# Altium footprint library AD9172+K7.PcbLib: 77 footprints (part 2 of 5)
Each footprint in its own frame and in the unit in brackets; x right, y up, seen from the top. Pads: shape width x height; smd on the part's side, far side on the other; paste and mask are expansions set on the pad; w line width, h text height; cw(c..) or ccw(c..) is an arc to the next point about the centre after c.
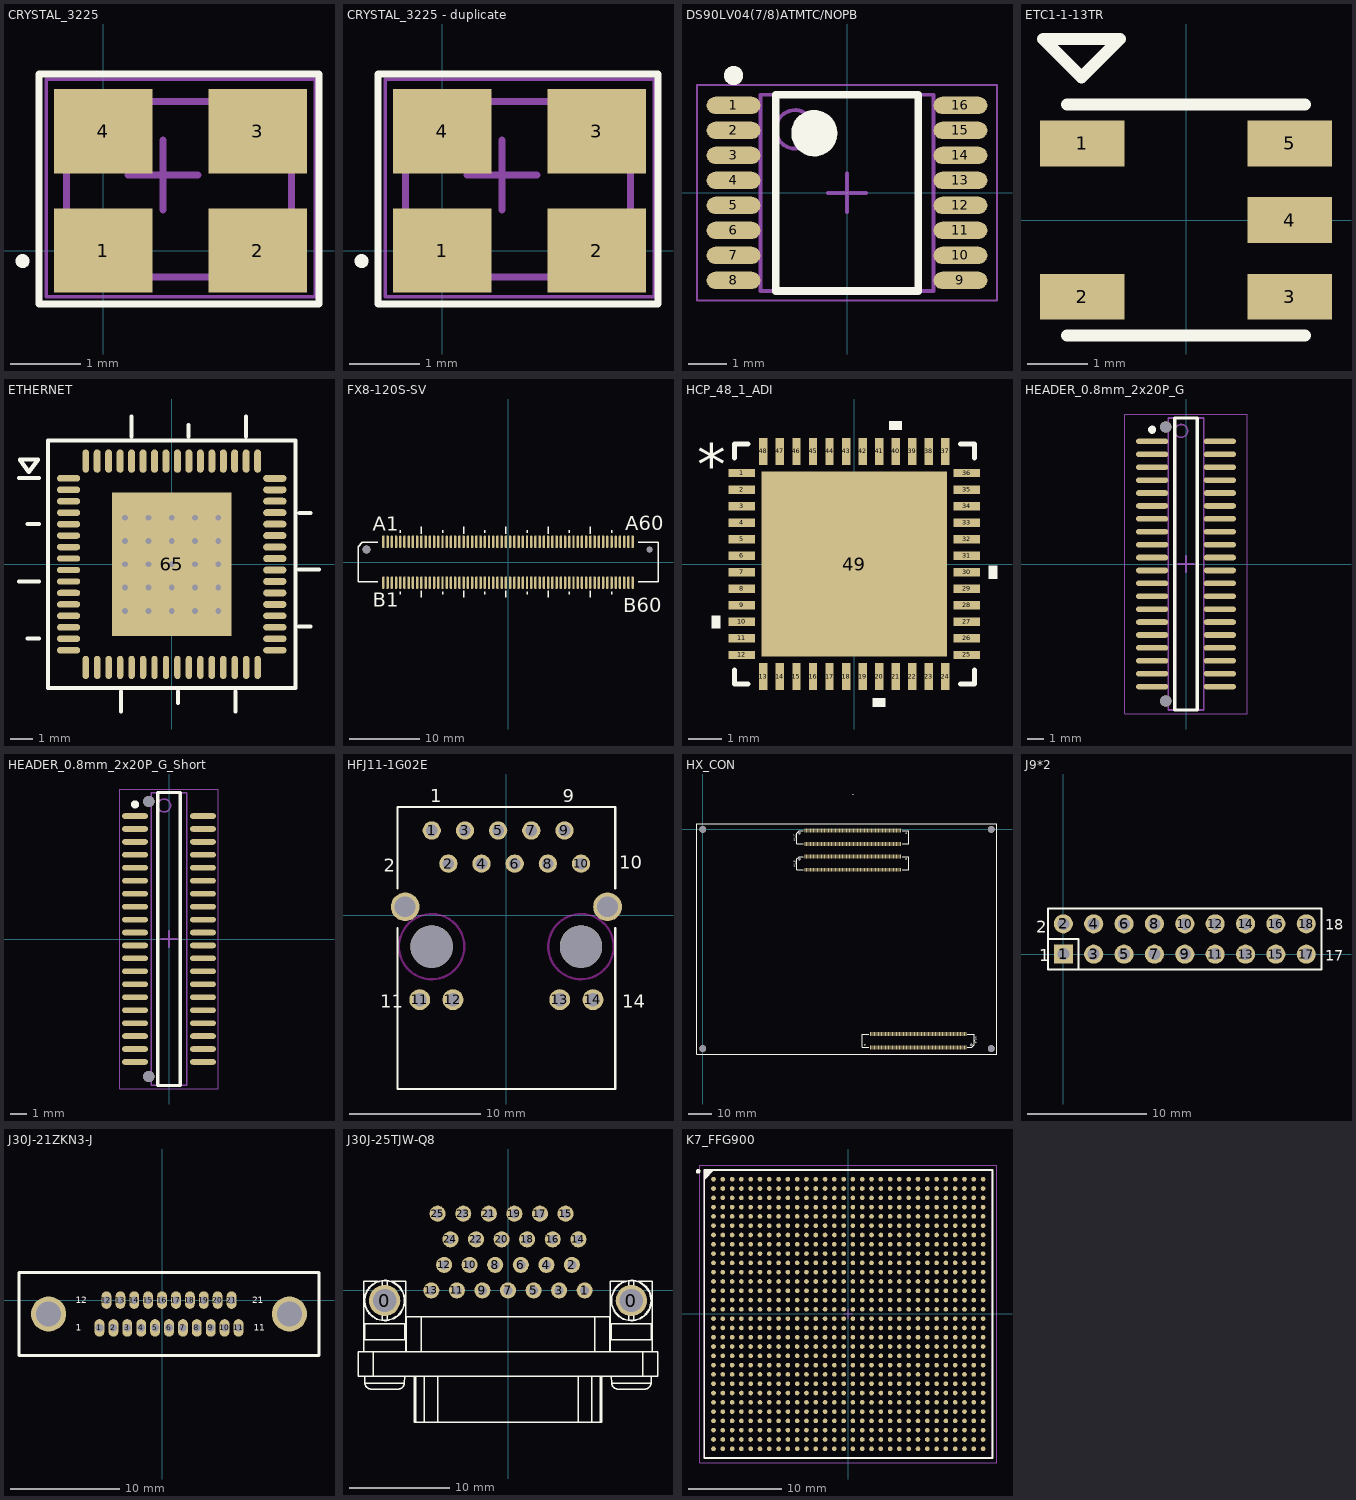
[diagram p1: the footprints below, top view; thin cyan lines are the x and y axes]

## CRYSTAL_3225 [mm]
pads (4):
  rect 1.4x1.2 smd: 1(0,0) 2(2.2,0) 3(2.2,1.7) 4(0,1.7)
Top Overlay:
  circle w0.1: c-1.15,-0.15 r0.05
  lines w0.1: -0.914,-0.762 3.073,-0.762 3.073,2.515 -0.914,2.515 -0.914,-0.762
Mechanical 13:
  lines w0.1: -0.521,-0.379 -0.521,2.121 2.679,2.121 2.679,-0.379 -0.521,-0.379
Mechanical 15:
  lines w0.05: -0.813,-0.66 -0.813,2.438 3.023,2.438 3.023,-0.66 -0.813,-0.66
  lines w0.1: 0.35,1.075 1.35,1.075 ; 0.85,0.575 0.85,1.575
3D body: height 0.7, standoff 0.1, extent -0.508,-0.412 2.692,2.088

## CRYSTAL_3225 - duplicate [mm]
pads (4):
  rect 1.4x1.2 smd: 1(0,0) 2(2.2,0) 3(2.2,1.7) 4(0,1.7)
Top Overlay:
  circle w0.1: c-1.15,-0.15 r0.05
  lines w0.1: -0.914,-0.762 3.073,-0.762 3.073,2.515 -0.914,2.515 -0.914,-0.762
Mechanical 13:
  lines w0.1: -0.521,-0.379 -0.521,2.121 2.679,2.121 2.679,-0.379 -0.521,-0.379
Mechanical 15:
  lines w0.05: -0.813,-0.66 -0.813,2.438 3.023,2.438 3.023,-0.66 -0.813,-0.66
  lines w0.1: 0.35,1.075 1.35,1.075 ; 0.85,0.575 0.85,1.575
3D body: height 0.7, standoff 0.1, extent -0.508,-0.412 2.692,2.088

## DS90LV04(7/8)ATMTC/NOPB [mm] "TSSOP (PW)"
height 1.2
pads (16):
  oval 1.4x0.45 smd: 1(-2.95,2.275) 2(-2.95,1.625) 3(-2.95,0.975) 4(-2.95,0.325) 5(-2.95,-0.325) 6(-2.95,-0.975) 7(-2.95,-1.625) 8(-2.95,-2.275) 9(2.95,-2.275) 10(2.95,-1.625) 11(2.95,-0.975) 12(2.95,-0.325) 13(2.95,0.325) 14(2.95,0.975) 15(2.95,1.625) 16(2.95,2.275)
Top Overlay:
  circle w0.25: c-2.95,3.05 r0.125
  circle w0.6: c-0.85,1.55 r0.3
  lines w0.2: -1.85,-2.55 -1.85,2.55 1.85,2.55 1.85,-2.55 -1.85,-2.55
Mechanical 13:
  circle w0.1: c-1.35,1.65 r0.5
  lines w0.1: -2.25,-2.55 -2.25,2.55 2.25,2.55 2.25,-2.55 -2.25,-2.55
Mechanical 15:
  lines w0.05: -3.9,-2.8 -3.9,2.8 3.9,2.8 3.9,-2.8 -3.9,-2.8
  lines w0.1: -0.5,0 0.5,0 ; 0,-0.5 0,0.5
3D body: height 1.2, standoff 0.05, extent -2.25,-2.55 2.25,2.55

## ETC1-1-13TR [mm]
pads (5):
  rect 1.4x0.76 smd: 1(-1.715,1.27) 2(-1.715,-1.27) 3(1.715,-1.27) 4(1.715,0) 5(1.715,1.27)
Top Overlay:
  lines w0.2: -1.97,-1.915 1.97,-1.915 ; -1.97,1.915 1.97,1.915 ; -2.365,3 -1.73,2.365 -1.095,3 -2.365,3

## ETHERNET [mm]
height 1.1
pads (65):
  oval 1.016x0.279 smd: 1(-4.5,3.75) 2(-4.5,3.25) 3(-4.5,2.75) 4(-4.5,2.25) 5(-4.5,1.75) 6(-4.5,1.25) 7(-4.5,0.75) 8(-4.5,0.25) 9(-4.5,-0.25) 10(-4.5,-0.75) 11(-4.5,-1.25) 12(-4.5,-1.75) 13(-4.5,-2.25) 14(-4.5,-2.75) 15(-4.5,-3.25) 16(-4.5,-3.75) 33(4.5,-3.75) 34(4.5,-3.25) 35(4.5,-2.75) 36(4.5,-2.25)
  oval 0.279x1.016 smd: 17(-3.75,-4.5) 18(-3.25,-4.5) 19(-2.75,-4.5) 20(-2.25,-4.5) 21(-1.75,-4.5) 22(-1.25,-4.5) 23(-0.75,-4.5) 24(-0.25,-4.5) 25(0.25,-4.5) 26(0.75,-4.5) 27(1.25,-4.5) 28(1.75,-4.5) 29(2.25,-4.5) 30(2.75,-4.5) 31(3.25,-4.5) 32(3.75,-4.5) 64(-3.75,4.5)
  oval 1.016x0.305 smd: 37(4.5,-1.75) 38(4.5,-1.25) 39(4.5,-0.75) 40(4.5,-0.25) 41(4.5,0.25) 42(4.5,0.75) 43(4.5,1.25) 44(4.5,1.75) 45(4.5,2.25) 46(4.5,2.75) 47(4.5,3.25) 48(4.5,3.75)
  oval 0.305x1.016 smd: 49(3.75,4.5) 50(3.25,4.5) 51(2.75,4.5) 52(2.25,4.5) 53(1.75,4.5) 54(1.25,4.5) 55(0.75,4.5) 56(0.25,4.5) 57(-0.25,4.5) 58(-0.75,4.5) 59(-1.25,4.5) 60(-1.75,4.5) 61(-2.25,4.5) 62(-2.75,4.5) 63(-3.25,4.5)
  rect 5.21x6.25 smd: 65(0,0)
via 0,0 diameter 0.457 hole 0.254
via 0,1.016 diameter 0.457 hole 0.254
via 0,2.032 diameter 0.457 hole 0.254
via 0,-1.016 diameter 0.457 hole 0.254
via 0,-2.032 diameter 0.457 hole 0.254
via -1.016,0 diameter 0.457 hole 0.254
via -2.032,0 diameter 0.457 hole 0.254
via 1.016,0 diameter 0.457 hole 0.254
via 2.032,0 diameter 0.457 hole 0.254
via 1.016,1.016 diameter 0.457 hole 0.254
via 1.016,2.032 diameter 0.457 hole 0.254
via 1.016,-1.016 diameter 0.457 hole 0.254
via 1.016,-2.032 diameter 0.457 hole 0.254
via 2.032,1.016 diameter 0.457 hole 0.254
via 2.032,2.032 diameter 0.457 hole 0.254
via 2.032,-1.016 diameter 0.457 hole 0.254
via 2.032,-2.032 diameter 0.457 hole 0.254
via -1.016,1.016 diameter 0.457 hole 0.254
via -1.016,2.032 diameter 0.457 hole 0.254
via -1.016,-1.016 diameter 0.457 hole 0.254
via -1.016,-2.032 diameter 0.457 hole 0.254
via -2.032,1.016 diameter 0.457 hole 0.254
via -2.032,2.032 diameter 0.457 hole 0.254
via -2.032,-1.016 diameter 0.457 hole 0.254
via -2.032,-2.032 diameter 0.457 hole 0.254
Top Overlay:
  lines w0.178: -6.662,-0.743 -5.798,-0.743 ; -6.662,3.757 -5.798,3.757 ; -6.292,-3.243 -5.798,-3.243 ; -6.292,1.757 -5.798,1.757 ; -2.217,-6.414 -2.217,-5.551 ; -1.76,5.575 -1.76,6.438 ; 0.283,-6.044 0.283,-5.551 ; 0.74,5.575 0.74,6.068 ; 2.783,-6.414 2.783,-5.551 ; 3.24,5.575 3.24,6.438 ; 5.563,-2.718 6.056,-2.718 ; 5.563,-0.229 6.426,-0.229 ; 5.566,2.243 6.06,2.243 ; -6.625,4.571 -5.825,4.571 -6.233,4.025 -6.625,4.571 ; -5.4,-5.4 -5.4,5.4 5.4,5.4 5.4,-5.4 -5.4,-5.4

## FX8-120S-SV [mm]
pads (122):
  oval 0.35x1.8 smd mask+0.102: A1(-17.7,2.9) A2(-17.1,2.9) A3(-16.5,2.9) A4(-15.9,2.9) A5(-15.3,2.9) A6(-14.7,2.9) A7(-14.1,2.9) A8(-13.5,2.9) A9(-12.9,2.9) A10(-12.3,2.9) A11(-11.7,2.9) A12(-11.1,2.9) A13(-10.5,2.9) A14(-9.9,2.9) A15(-9.3,2.9) A16(-8.7,2.9) A17(-8.1,2.9) A18(-7.5,2.9) A19(-6.9,2.9) A20(-6.3,2.9) A21(-5.7,2.9) A22(-5.1,2.9) A23(-4.5,2.9) A24(-3.9,2.9) A25(-3.3,2.9) A26(-2.7,2.9) A27(-2.1,2.9) A28(-1.5,2.9) A29(-0.9,2.9) A30(-0.3,2.9) A31(0.3,2.9) A32(0.9,2.9) A33(1.5,2.9) A34(2.1,2.9) A35(2.7,2.9) A36(3.3,2.9) A37(3.9,2.9) A38(4.5,2.9) A39(5.1,2.9) A40(5.7,2.9) A41(6.3,2.9) A42(6.9,2.9) A43(7.5,2.9) A44(8.1,2.9) A45(8.7,2.9) A46(9.3,2.9) A47(9.9,2.9) A48(10.5,2.9) A49(11.1,2.9) A50(11.7,2.9) A51(12.3,2.9) A52(12.9,2.9) A53(13.5,2.9) A54(14.1,2.9) A55(14.7,2.9) A56(15.3,2.9) A57(15.9,2.9) A58(16.5,2.9) A59(17.1,2.9) A60(17.7,2.9) B1(-17.7,-2.9) B2(-17.1,-2.9) B3(-16.5,-2.9) B4(-15.9,-2.9) B5(-15.3,-2.9) B6(-14.7,-2.9) B7(-14.1,-2.9) B8(-13.5,-2.9) B9(-12.9,-2.9) B10(-12.3,-2.9) B11(-11.7,-2.9) B12(-11.1,-2.9) B13(-10.5,-2.9) B14(-9.9,-2.9) B15(-9.3,-2.9) B16(-8.7,-2.9) B17(-8.1,-2.9) B18(-7.5,-2.9) B19(-6.9,-2.9) B20(-6.3,-2.9) B21(-5.7,-2.9) B22(-5.1,-2.9) B23(-4.5,-2.9) B24(-3.9,-2.9) B25(-3.3,-2.9) B26(-2.7,-2.9) B27(-2.1,-2.9) B28(-1.5,-2.9) B29(-0.9,-2.9) B30(-0.3,-2.9) B31(0.3,-2.9) B32(0.9,-2.9) B33(1.5,-2.9) B34(2.1,-2.9) B35(2.7,-2.9) B36(3.3,-2.9) B37(3.9,-2.9) B38(4.5,-2.9) B39(5.1,-2.9) B40(5.7,-2.9) B41(6.3,-2.9) B42(6.9,-2.9) B43(7.5,-2.9) B44(8.1,-2.9) B45(8.7,-2.9) B46(9.3,-2.9) B47(9.9,-2.9) B48(10.5,-2.9) B49(11.1,-2.9) B50(11.7,-2.9) B51(12.3,-2.9) B52(12.9,-2.9) B53(13.5,-2.9) B54(14.1,-2.9) B55(14.7,-2.9) B56(15.3,-2.9) B57(15.9,-2.9) B58(16.5,-2.9) B59(17.1,-2.9) B60(17.7,-2.9)
  round 1.1 hole 1.1 unplated mask+0.102: ""(-20.1,1.8)
  round 0.8 hole 0.8 unplated mask+0.102: ""(20.1,1.8)
Top Overlay:
  lines w0.178: -18.5,-2.8 -21.3,-2.8 -21.3,2.195 -20.695,2.8 -18.5,2.8 ; -15.291,-4.547 -15.291,-4.166 ; -15.291,4.166 -15.291,4.547 ; -12.319,-5.004 -12.319,-4.064 ; -12.319,4.064 -12.319,5.004 ; -9.291,-4.547 -9.291,-4.166 ; -9.291,4.166 -9.291,4.547 ; -6.319,-5.004 -6.319,-4.064 ; -6.319,4.064 -6.319,5.004 ; -3.291,-4.547 -3.291,-4.166 ; -3.291,4.166 -3.291,4.547 ; -0.319,-5.004 -0.319,-4.064 ; -0.319,4.064 -0.319,5.004 ; 2.709,-4.547 2.709,-4.166 ; 2.709,4.166 2.709,4.547 ; 5.681,-5.004 5.681,-4.064 ; 5.681,4.064 5.681,5.004 ; 8.709,-4.547 8.709,-4.166 ; 8.709,4.166 8.709,4.547 ; 11.681,-5.004 11.681,-4.064 ; 11.681,4.064 11.681,5.004 ; 14.709,-4.547 14.709,-4.166 ; 14.709,4.166 14.709,4.547 ; 18.5,-2.8 21.3,-2.8 21.3,2.8 18.5,2.8
  text "A1" at -19.177,4.445 h2.03
  text "B1" at -19.177,-6.35 h2.03
  text "A60" at 16.637,4.572 h2.03
  text "B60" at 16.383,-7.112 h2.03

## HCP_48_1_ADI [mm]
pads (49):
  rect 0.805x0.254 smd paste+0 mask+0: 1(-3.402,2.75) 2(-3.402,2.25) 3(-3.402,1.75) 4(-3.402,1.25) 5(-3.402,0.75) 6(-3.402,0.25) 7(-3.402,-0.25) 8(-3.402,-0.75) 9(-3.402,-1.25) 10(-3.402,-1.75) 11(-3.402,-2.25) 12(-3.402,-2.75) 25(3.402,-2.75) 26(3.402,-2.25) 27(3.402,-1.75) 28(3.402,-1.25) 29(3.402,-0.75) 30(3.402,-0.25) 31(3.402,0.25) 32(3.402,0.75) 33(3.402,1.25) 34(3.402,1.75) 35(3.402,2.25) 36(3.402,2.75)
  rect 0.254x0.805 smd paste+0 mask+0: 13(-2.75,-3.402) 14(-2.25,-3.402) 15(-1.75,-3.402) 16(-1.25,-3.402) 17(-0.75,-3.402) 18(-0.25,-3.402) 19(0.25,-3.402) 20(0.75,-3.402) 21(1.25,-3.402) 22(1.75,-3.402) 23(2.25,-3.402) 24(2.75,-3.402) 37(2.75,3.402) 38(2.25,3.402) 39(1.75,3.402) 40(1.25,3.402) 41(0.75,3.402) 42(0.25,3.402) 43(-0.25,3.402) 44(-0.75,3.402) 45(-1.25,3.402) 46(-1.75,3.402) 47(-2.25,3.402) 48(-2.75,3.402)
  rect 5.6x5.6 smd paste-2.787 mask+0: 49(0,0)
Top Overlay:
  region: -4.059,-1.559 -4.313,-1.559 -4.313,-1.94 -4.059,-1.94
  region: 0.941,-4.059 0.56,-4.059 0.56,-4.313 0.941,-4.313
  region: 4.059,-0.059 4.313,-0.059 4.313,-0.44 4.059,-0.44
  region: 1.441,4.059 1.06,4.059 1.06,4.313 1.441,4.313
  lines w0.152: -3.627,-3.21 -3.627,-3.627 -3.21,-3.627 ; -3.627,3.21 -3.627,3.627 -3.21,3.627 ; 3.21,-3.627 3.627,-3.627 3.627,-3.21 ; 3.21,3.627 3.627,3.627 3.627,3.21
  text "*" at -4.757,2.365 h1.27
Top Paste:
  region: -1.5,2.7 -2.7,2.7 -2.7,1.5 -1.5,1.5
  region: -1.5,1.3 -2.7,1.3 -2.7,0.1 -1.5,0.1
  region: -1.5,-0.1 -2.7,-0.1 -2.7,-1.3 -1.5,-1.3
  region: -1.5,-1.5 -2.7,-1.5 -2.7,-2.7 -1.5,-2.7
  region: -0.1,2.7 -1.3,2.7 -1.3,1.5 -0.1,1.5
  region: -0.1,1.3 -1.3,1.3 -1.3,0.1 -0.1,0.1
  region: -0.1,-0.1 -1.3,-0.1 -1.3,-1.3 -0.1,-1.3
  region: -0.1,-1.5 -1.3,-1.5 -1.3,-2.7 -0.1,-2.7
  region: 1.3,2.7 0.1,2.7 0.1,1.5 1.3,1.5
  region: 1.3,1.3 0.1,1.3 0.1,0.1 1.3,0.1
  region: 1.3,-0.1 0.1,-0.1 0.1,-1.3 1.3,-1.3
  region: 1.3,-1.5 0.1,-1.5 0.1,-2.7 1.3,-2.7
  region: 2.7,2.7 1.5,2.7 1.5,1.5 2.7,1.5
  region: 2.7,1.3 1.5,1.3 1.5,0.1 2.7,0.1
  region: 2.7,-0.1 1.5,-0.1 1.5,-1.3 2.7,-1.3
  region: 2.7,-1.5 1.5,-1.5 1.5,-2.7 2.7,-2.7

## HEADER_0.8mm_2x20P_G [mm] "0.8间距2x20P公座，SMD"
height 2
pads (40):
  oval 2x0.35 smd: 1(-2.1,7.6) 2(-2.1,6.8) 3(-2.1,6) 4(-2.1,5.2) 5(-2.1,4.4) 6(-2.1,3.6) 7(-2.1,2.8) 8(-2.1,2) 9(-2.1,1.2) 10(-2.1,0.4) 11(-2.1,-0.4) 12(-2.1,-1.2) 13(-2.1,-2) 14(-2.1,-2.8) 15(-2.1,-3.6) 16(-2.1,-4.4) 17(-2.1,-5.2) 18(-2.1,-6) 19(-2.1,-6.8) 20(-2.1,-7.6) 21(2.1,-7.6) 22(2.1,-6.8) 23(2.1,-6) 24(2.1,-5.2) 25(2.1,-4.4) 26(2.1,-3.6) 27(2.1,-2.8) 28(2.1,-2) 29(2.1,-1.2) 30(2.1,-0.4) 31(2.1,0.4) 32(2.1,1.2) 33(2.1,2) 34(2.1,2.8) 35(2.1,3.6) 36(2.1,4.4) 37(2.1,5.2) 38(2.1,6) 39(2.1,6.8) 40(2.1,7.6)
via -1.25,-8.5 diameter 0.7 hole 0.7
via -1.25,8.5 diameter 0.7 hole 0.7
Top Overlay:
  circle w0.25: c-2.1,8.325 r0.125
  lines w0.2: -0.7,-9.05 0.7,-9.05 0.7,9.05 -0.7,9.05 -0.7,-9.05
Mechanical 13:
  circle w0.1: c-0.3,8.25 r0.4
  lines w0.1: -1.1,-9.05 1.1,-9.05 1.1,9.05 -1.1,9.05 -1.1,-9.05
Mechanical 15:
  lines w0.05: -3.8,-9.3 3.8,-9.3 3.8,9.3 -3.8,9.3 -3.8,-9.3
  lines w0.1: -0.5,0 0.5,0 ; 0,-0.5 0,0.5
3D body: height 2, standoff 0.1, extent -1.1,-9.05 1.1,9.05

## HEADER_0.8mm_2x20P_G_Short [mm] "0.8间距2x20P公座，SMD"
height 2
pads (40):
  oval 1.6x0.35 smd: 1(-2.1,7.6) 2(-2.1,6.8) 3(-2.1,6) 4(-2.1,5.2) 5(-2.1,4.4) 6(-2.1,3.6) 7(-2.1,2.8) 8(-2.1,2) 9(-2.1,1.2) 10(-2.1,0.4) 11(-2.1,-0.4) 12(-2.1,-1.2) 13(-2.1,-2) 14(-2.1,-2.8) 15(-2.1,-3.6) 16(-2.1,-4.4) 17(-2.1,-5.2) 18(-2.1,-6) 19(-2.1,-6.8) 20(-2.1,-7.6) 21(2.1,-7.6) 22(2.1,-6.8) 23(2.1,-6) 24(2.1,-5.2) 25(2.1,-4.4) 26(2.1,-3.6) 27(2.1,-2.8) 28(2.1,-2) 29(2.1,-1.2) 30(2.1,-0.4) 31(2.1,0.4) 32(2.1,1.2) 33(2.1,2) 34(2.1,2.8) 35(2.1,3.6) 36(2.1,4.4) 37(2.1,5.2) 38(2.1,6) 39(2.1,6.8) 40(2.1,7.6)
via -1.25,-8.5 diameter 0.7 hole 0.7
via -1.25,8.5 diameter 0.7 hole 0.7
Top Overlay:
  circle w0.25: c-2.1,8.325 r0.125
  lines w0.2: -0.7,-9.05 0.7,-9.05 0.7,9.05 -0.7,9.05 -0.7,-9.05
Mechanical 13:
  circle w0.1: c-0.3,8.25 r0.4
  lines w0.1: -1.1,-9.05 1.1,-9.05 1.1,9.05 -1.1,9.05 -1.1,-9.05
Mechanical 15:
  lines w0.05: -3.048,-9.271 3.048,-9.271 3.048,9.271 -3.048,9.271 -3.048,-9.271
  lines w0.1: -0.5,0 0.5,0 ; 0,-0.5 0,0.5
3D body: height 2, standoff 0.1, extent -1.1,-9.05 1.1,9.05

## HFJ11-1G02E [mm]
pads (18):
  round 1.4 hole 0.89: 1(-5.71,6.475) 2(-4.44,3.935) 3(-3.17,6.475) 4(-1.9,3.935) 5(-0.63,6.475) 6(0.64,3.935) 7(1.91,6.475) 8(3.18,3.935) 9(4.45,6.475) 10(5.72,3.935)
  round 1.6 hole 1.02: 11(-6.63,-6.475) 12(-4.09,-6.475) 13(4.09,-6.475) 14(6.63,-6.475)
  round 2.2 hole 1.6: ""(-7.745,0.635) ""(7.745,0.635)
  round 3.25 hole 3.25 unplated: ""(-5.715,-2.415) ""(5.715,-2.415)
Top Overlay:
  lines w0.178: -8.33,-1.016 -8.33,-13.315 8.33,-13.315 8.33,-1.016 ; -8.33,2.032 -8.33,8.275 8.33,8.275 8.33,2.032
  text "11" at -9.652,-7.112 h1.02
  text "14" at 8.89,-7.112 h1.02
  text "2" at -9.398,3.302 h1.02
  text "10" at 8.636,3.556 h1.02
  text "9" at 4.318,8.636 h1.02
  text "1" at -5.842,8.636 h1.02
Keep-Out Layer:
  circle w0.178: c5.715,-2.415 r2.5
  circle w0.178: c-5.715,-2.415 r2.5

## HX_CON [mm]
pads (430):
  round 3 hole 3 unplated: 0(0,-95) 0(0,0) 0(125,-95) 0(125,0)
  rect 0.35x1.7 smd mask+0.102: A1_1(44.306,-0.55) A1_2(44.906,-0.55) A1_3(45.506,-0.55) A1_4(46.106,-0.55) A1_5(46.706,-0.55) A1_6(47.306,-0.55) A1_7(47.906,-0.55) A1_8(48.506,-0.55) A1_9(49.106,-0.55) A1_10(49.706,-0.55) A1_11(50.306,-0.55) A1_12(50.906,-0.55) A1_13(51.506,-0.55) A1_14(52.106,-0.55) A1_15(52.706,-0.55) A1_16(53.306,-0.55) A1_17(53.906,-0.55) A1_18(54.506,-0.55) A1_19(55.106,-0.55) A1_20(55.706,-0.55) A1_21(56.306,-0.55) A1_22(56.906,-0.55) A1_23(57.506,-0.55) A1_24(58.106,-0.55) A1_25(58.706,-0.55) A1_26(59.306,-0.55) A1_27(59.906,-0.55) A1_28(60.506,-0.55) A1_29(61.106,-0.55) A1_30(61.706,-0.55) A1_31(62.306,-0.55) A1_32(62.906,-0.55) A1_33(63.506,-0.55) A1_34(64.106,-0.55) A1_35(64.706,-0.55) A1_36(65.306,-0.55) A1_37(65.906,-0.55) A1_38(66.506,-0.55) A1_39(67.106,-0.55) A1_40(67.706,-0.55) A1_41(68.306,-0.55) A1_42(68.906,-0.55) A1_43(69.506,-0.55) A1_44(70.106,-0.55) A1_45(70.706,-0.55) A1_46(71.306,-0.55) A1_47(71.906,-0.55) A1_48(72.506,-0.55) A1_49(73.106,-0.55) A1_50(73.706,-0.55) A1_51(74.306,-0.55) A1_52(74.906,-0.55) A1_53(75.506,-0.55) A1_54(76.106,-0.55) A1_55(76.706,-0.55) A1_56(77.306,-0.55) A1_57(77.906,-0.55) A1_58(78.506,-0.55) A1_59(79.106,-0.55) A1_60(79.706,-0.55) A1_61(80.306,-0.55) A1_62(80.906,-0.55) A1_63(81.506,-0.55) A1_64(82.106,-0.55) A1_65(82.706,-0.55) A1_66(83.306,-0.55) A1_67(83.906,-0.55) A1_68(84.506,-0.55) A1_69(85.106,-0.55) A1_70(85.706,-0.55) A2_1(44.306,-11.779) A2_2(44.906,-11.779) A2_3(45.506,-11.779) A2_4(46.106,-11.779) A2_5(46.706,-11.779) A2_6(47.306,-11.779) A2_7(47.906,-11.779) A2_8(48.506,-11.779) A2_9(49.106,-11.779) A2_10(49.706,-11.779) A2_11(50.306,-11.779) A2_12(50.906,-11.779) A2_13(51.506,-11.779) A2_14(52.106,-11.779) A2_15(52.706,-11.779) A2_16(53.306,-11.779) A2_17(53.906,-11.779) A2_18(54.506,-11.779) A2_19(55.106,-11.779) A2_20(55.706,-11.779) A2_21(56.306,-11.779) A2_22(56.906,-11.779) A2_23(57.506,-11.779) A2_24(58.106,-11.779) A2_25(58.706,-11.779) A2_26(59.306,-11.779) A2_27(59.906,-11.779) A2_28(60.506,-11.779) A2_29(61.106,-11.779) A2_30(61.706,-11.779) A2_31(62.306,-11.779) A2_32(62.906,-11.779) A2_33(63.506,-11.779) A2_34(64.106,-11.779) A2_35(64.706,-11.779) A2_36(65.306,-11.779) A2_37(65.906,-11.779) A2_38(66.506,-11.779) A2_39(67.106,-11.779) A2_40(67.706,-11.779) A2_41(68.306,-11.779) A2_42(68.906,-11.779) A2_43(69.506,-11.779) A2_44(70.106,-11.779) A2_45(70.706,-11.779) A2_46(71.306,-11.779) A2_47(71.906,-11.779) A2_48(72.506,-11.779) A2_49(73.106,-11.779) A2_50(73.706,-11.779) A2_51(74.306,-11.779) A2_52(74.906,-11.779) A2_53(75.506,-11.779) A2_54(76.106,-11.779) A2_55(76.706,-11.779) A2_56(77.306,-11.779) A2_57(77.906,-11.779) A2_58(78.506,-11.779) A2_59(79.106,-11.779) A2_60(79.706,-11.779) A2_61(80.306,-11.779) A2_62(80.906,-11.779) A2_63(81.506,-11.779) A2_64(82.106,-11.779) A2_65(82.706,-11.779) A2_66(83.306,-11.779) A2_67(83.906,-11.779) A2_68(84.506,-11.779) A2_69(85.106,-11.779) A2_70(85.706,-11.779) A3_1(114.01,-94.45) A3_2(113.41,-94.45) A3_3(112.81,-94.45) A3_4(112.21,-94.45) A3_5(111.61,-94.45) A3_6(111.01,-94.45) A3_7(110.41,-94.45) A3_8(109.81,-94.45) A3_9(109.21,-94.45) A3_10(108.61,-94.45) A3_11(108.01,-94.45) A3_12(107.41,-94.45) A3_13(106.81,-94.45) A3_14(106.21,-94.45) A3_15(105.61,-94.45) A3_16(105.01,-94.45) A3_17(104.41,-94.45) A3_18(103.81,-94.45) A3_19(103.21,-94.45) A3_20(102.61,-94.45) A3_21(102.01,-94.45) A3_22(101.41,-94.45) A3_23(100.81,-94.45) A3_24(100.21,-94.45) A3_25(99.61,-94.45) A3_26(99.01,-94.45) A3_27(98.41,-94.45) A3_28(97.81,-94.45) A3_29(97.21,-94.45) A3_30(96.61,-94.45) A3_31(96.01,-94.45) A3_32(95.41,-94.45) A3_33(94.81,-94.45) A3_34(94.21,-94.45) A3_35(93.61,-94.45) A3_36(93.01,-94.45) A3_37(92.41,-94.45) A3_38(91.81,-94.45) A3_39(91.21,-94.45) A3_40(90.61,-94.45) A3_41(90.01,-94.45) A3_42(89.41,-94.45) A3_43(88.81,-94.45) A3_44(88.21,-94.45) A3_45(87.61,-94.45) A3_46(87.01,-94.45) A3_47(86.41,-94.45) A3_48(85.81,-94.45) A3_49(85.21,-94.45) A3_50(84.61,-94.45) A3_51(84.01,-94.45) A3_52(83.41,-94.45) A3_53(82.81,-94.45) A3_54(82.21,-94.45) A3_55(81.61,-94.45) A3_56(81.01,-94.45) A3_57(80.41,-94.45) A3_58(79.81,-94.45) A3_59(79.21,-94.45) A3_60(78.61,-94.45) A3_61(78.01,-94.45) A3_62(77.41,-94.45) A3_63(76.81,-94.45) A3_64(76.21,-94.45) A3_65(75.61,-94.45) A3_66(75.01,-94.45) A3_67(74.41,-94.45) A3_68(73.81,-94.45) A3_69(73.21,-94.45) A3_70(72.61,-94.45) B1_1(44.306,-6.25) B1_2(44.906,-6.25) B1_3(45.506,-6.25) B1_4(46.106,-6.25) B1_5(46.706,-6.25) B1_6(47.306,-6.25) B1_7(47.906,-6.25) B1_8(48.506,-6.25) B1_9(49.106,-6.25) B1_10(49.706,-6.25) B1_11(50.306,-6.25) B1_12(50.906,-6.25) B1_13(51.506,-6.25) B1_14(52.106,-6.25) B1_15(52.706,-6.25) B1_16(53.306,-6.25) B1_17(53.906,-6.25) B1_18(54.506,-6.25) B1_19(55.106,-6.25) B1_20(55.706,-6.25) B1_21(56.306,-6.25) B1_22(56.906,-6.25) B1_23(57.506,-6.25) B1_24(58.106,-6.25) B1_25(58.706,-6.25) B1_26(59.306,-6.25) B1_27(59.906,-6.25) B1_28(60.506,-6.25) B1_29(61.106,-6.25) B1_30(61.706,-6.25) B1_31(62.306,-6.25) B1_32(62.906,-6.25) B1_33(63.506,-6.25) B1_34(64.106,-6.25) B1_35(64.706,-6.25) B1_36(65.306,-6.25) B1_37(65.906,-6.25) B1_38(66.506,-6.25) B1_39(67.106,-6.25) B1_40(67.706,-6.25) B1_41(68.306,-6.25) B1_42(68.906,-6.25) B1_43(69.506,-6.25) B1_44(70.106,-6.25) B1_45(70.706,-6.25) B1_46(71.306,-6.25) B1_47(71.906,-6.25) B1_48(72.506,-6.25) B1_49(73.106,-6.25) B1_50(73.706,-6.25) B1_51(74.306,-6.25) B1_52(74.906,-6.25) B1_53(75.506,-6.25) B1_54(76.106,-6.25) B1_55(76.706,-6.25) B1_56(77.306,-6.25) B1_57(77.906,-6.25) B1_58(78.506,-6.25) B1_59(79.106,-6.25) B1_60(79.706,-6.25) B1_61(80.306,-6.25) B1_62(80.906,-6.25) B1_63(81.506,-6.25) B1_64(82.106,-6.25) B1_65(82.706,-6.25) B1_66(83.306,-6.25) B1_67(83.906,-6.25) B1_68(84.506,-6.25) B1_69(85.106,-6.25) B1_70(85.706,-6.25) B2_1(44.306,-17.479) B2_2(44.906,-17.479) B2_3(45.506,-17.479) B2_4(46.106,-17.479) B2_5(46.706,-17.479) B2_6(47.306,-17.479) B2_7(47.906,-17.479) B2_8(48.506,-17.479) B2_9(49.106,-17.479) B2_10(49.706,-17.479) B2_11(50.306,-17.479) B2_12(50.906,-17.479) B2_13(51.506,-17.479) B2_14(52.106,-17.479) B2_15(52.706,-17.479) B2_16(53.306,-17.479) B2_17(53.906,-17.479) B2_18(54.506,-17.479) B2_19(55.106,-17.479) B2_20(55.706,-17.479) B2_21(56.306,-17.479) B2_22(56.906,-17.479) B2_23(57.506,-17.479) B2_24(58.106,-17.479) B2_25(58.706,-17.479) B2_26(59.306,-17.479) B2_27(59.906,-17.479) B2_28(60.506,-17.479) B2_29(61.106,-17.479) B2_30(61.706,-17.479) B2_31(62.306,-17.479) B2_32(62.906,-17.479) B2_33(63.506,-17.479) B2_34(64.106,-17.479) B2_35(64.706,-17.479) B2_36(65.306,-17.479) B2_37(65.906,-17.479) B2_38(66.506,-17.479) B2_39(67.106,-17.479) B2_40(67.706,-17.479) B2_41(68.306,-17.479) B2_42(68.906,-17.479) B2_43(69.506,-17.479) B2_44(70.106,-17.479) B2_45(70.706,-17.479) B2_46(71.306,-17.479) B2_47(71.906,-17.479) B2_48(72.506,-17.479) B2_49(73.106,-17.479) B2_50(73.706,-17.479) B2_51(74.306,-17.479) B2_52(74.906,-17.479) B2_53(75.506,-17.479) B2_54(76.106,-17.479) B2_55(76.706,-17.479) B2_56(77.306,-17.479) B2_57(77.906,-17.479) B2_58(78.506,-17.479) B2_59(79.106,-17.479) B2_60(79.706,-17.479) B2_61(80.306,-17.479) B2_62(80.906,-17.479) B2_63(81.506,-17.479) B2_64(82.106,-17.479) B2_65(82.706,-17.479) B2_66(83.306,-17.479) B2_67(83.906,-17.479) B2_68(84.506,-17.479) B2_69(85.106,-17.479) B2_70(85.706,-17.479) B3_1(114.01,-88.75) B3_2(113.41,-88.75) B3_3(112.81,-88.75) B3_4(112.21,-88.75) B3_5(111.61,-88.75) B3_6(111.01,-88.75) B3_7(110.41,-88.75) B3_8(109.81,-88.75) B3_9(109.21,-88.75) B3_10(108.61,-88.75) B3_11(108.01,-88.75) B3_12(107.41,-88.75) B3_13(106.81,-88.75) B3_14(106.21,-88.75) B3_15(105.61,-88.75) B3_16(105.01,-88.75) B3_17(104.41,-88.75) B3_18(103.81,-88.75) B3_19(103.21,-88.75) B3_20(102.61,-88.75) B3_21(102.01,-88.75) B3_22(101.41,-88.75) B3_23(100.81,-88.75) B3_24(100.21,-88.75) B3_25(99.61,-88.75) B3_26(99.01,-88.75) B3_27(98.41,-88.75) B3_28(97.81,-88.75) B3_29(97.21,-88.75) B3_30(96.61,-88.75) B3_31(96.01,-88.75) B3_32(95.41,-88.75) B3_33(94.81,-88.75) B3_34(94.21,-88.75) B3_35(93.61,-88.75) B3_36(93.01,-88.75) B3_37(92.41,-88.75) B3_38(91.81,-88.75) B3_39(91.21,-88.75) B3_40(90.61,-88.75) B3_41(90.01,-88.75) B3_42(89.41,-88.75) B3_43(88.81,-88.75) B3_44(88.21,-88.75) B3_45(87.61,-88.75) B3_46(87.01,-88.75) B3_47(86.41,-88.75) B3_48(85.81,-88.75) B3_49(85.21,-88.75) B3_50(84.61,-88.75) B3_51(84.01,-88.75) B3_52(83.41,-88.75) B3_53(82.81,-88.75) B3_54(82.21,-88.75) B3_55(81.61,-88.75) B3_56(81.01,-88.75) B3_57(80.41,-88.75) B3_58(79.81,-88.75) B3_59(79.21,-88.75) B3_60(78.61,-88.75) B3_61(78.01,-88.75) B3_62(77.41,-88.75) B3_63(76.81,-88.75) B3_64(76.21,-88.75) B3_65(75.61,-88.75) B3_66(75.01,-88.75) B3_67(74.41,-88.75) B3_68(73.81,-88.75) B3_69(73.21,-88.75) B3_70(72.61,-88.75)
  round 1.1 hole 1.1 unplated: ""(41.906,-12.829) ""(41.906,-1.6) ""(116.41,-93.4)
  round 0.7 hole 0.7 unplated: ""(70.21,-93.4) ""(88.106,-12.829) ""(88.106,-1.6)
via 65.006,15.12 diameter 0.457 hole 0.254
Top Overlay:
  lines w0.178: 43.606,-17.429 40.706,-17.429 40.706,-12.829 41.706,-11.829 43.606,-11.829 ; 43.606,-6.2 40.706,-6.2 40.706,-1.6 41.706,-0.6 43.606,-0.6 ; 71.91,-94.4 69.01,-94.4 69.01,-88.8 71.91,-88.8 ; 86.406,-17.429 89.306,-17.429 89.306,-11.829 86.406,-11.829 ; 86.406,-6.2 89.306,-6.2 89.306,-0.6 86.406,-0.6 ; 114.71,-94.4 116.61,-94.4 117.61,-93.4 117.61,-88.8 114.71,-88.8 ; -2.5,-97.5 127.5,-97.5 127.5,2.5 -2.5,2.5 -2.5,-97.5
  text "HX_A" at 117.928,-89.804 h0.76
  text "HX_B" at 40.425,-16.419 h0.76
  text "HX_C" at 40.425,-5.19 h0.76

## J9*2 [mm]
pads (18):
  rect 1.6x1.6 hole 1: 1(0,0)
  round 1.6 hole 1: 2(0,2.54) 3(2.54,0) 4(2.54,2.54) 5(5.08,0) 6(5.08,2.54) 7(7.62,0) 8(7.62,2.54) 9(10.16,0) 10(10.16,2.54) 11(12.7,0) 12(12.7,2.54) 13(15.24,0) 14(15.24,2.54) 15(17.78,0) 16(17.78,2.54) 17(20.32,0) 18(20.32,2.54)
Top Overlay:
  lines w0.178: -1.27,1.27 1.27,1.27 1.27,-1.27 ; -1.27,-1.27 -1.27,3.81 21.59,3.81 21.59,-1.27 -1.27,-1.27
  text "2" at -2.286,1.778 h1.02
  text "1" at -2.032,-0.584 h1.02
  text "17" at 21.92,-0.559 h0.89
  text "18" at 21.895,2.032 h0.89

## J30J-21ZKN3-J [mm]
pads (23):
  oval 0.9x1.6 hole 0.7: 1(-5.715,-2.54) 2(-4.445,-2.54) 3(-3.175,-2.54) 4(-1.905,-2.54) 5(-0.635,-2.54) 6(0.635,-2.54) 7(1.905,-2.54) 8(3.175,-2.54) 9(4.445,-2.54) 10(5.715,-2.54) 11(6.985,-2.54) 12(-5.08,0) 13(-3.81,0) 14(-2.54,0) 15(-1.27,0) 16(0,0) 17(1.27,0) 18(2.54,0) 19(3.81,0) 20(5.08,0) 21(6.35,0)
  round 3.2 hole 2.3: ""(-10.365,-1.27) ""(11.635,-1.27)
Top Overlay:
  lines w0.254: -13.065,-5.07 14.335,-5.07 14.335,-1.27 14.335,2.53 -10.365,2.53 -13.065,2.53 -13.065,-1.27 -13.065,-5.07
  text "11" at 8.382,-3.048 h1.02
  text "1" at -7.874,-3.048 h1.02
  text "12" at -7.874,-0.508 h1.02
  text "21" at 8.255,-0.508 h1.02

## J30J-25TJW-Q8 [mm]
pads (27):
  round 3.1 hole 2.3: 0(-12.25,-1) 0(12.25,-1)
  round 1.6 hole 0.9: 1(7.62,0) 2(6.35,2.54) 3(5.08,0) 4(3.81,2.54) 5(2.54,0) 6(1.27,2.54) 7(0,0) 8(-1.27,2.54) 9(-2.54,0) 10(-3.81,2.54) 11(-5.08,0) 12(-6.35,2.54) 13(-7.62,0) 14(6.985,5.08) 15(5.715,7.62) 16(4.445,5.08) 17(3.175,7.62) 18(1.905,5.08) 19(0.635,7.62) 20(-0.635,5.08) 21(-1.905,7.62) 22(-3.175,5.08) 23(-4.445,7.62) 24(-5.715,5.08) 25(-6.985,7.62)
Top Overlay:
  drawing of 930 lines, arcs and shapes, not listed

## K7_FFG900 [mm]
height 2.54
pads (900):
  round 0.5 smd: A1(-14.5,14.5) A2(-13.5,14.5) A3(-12.5,14.5) A4(-11.5,14.5) A5(-10.5,14.5) A6(-9.5,14.5) A7(-8.5,14.5) A8(-7.5,14.5) A9(-6.5,14.5) A10(-5.5,14.5) A11(-4.5,14.5) A12(-3.5,14.5) A13(-2.5,14.5) A14(-1.5,14.5) A15(-0.5,14.5) A16(0.5,14.5) A17(1.5,14.5) A18(2.5,14.5) A19(3.5,14.5) A20(4.5,14.5) A21(5.5,14.5) A22(6.5,14.5) A23(7.5,14.5) A24(8.5,14.5) A25(9.5,14.5) A26(10.5,14.5) A27(11.5,14.5) A28(12.5,14.5) A29(13.5,14.5) A30(14.5,14.5) AA1(-14.5,-5.5) AA2(-13.5,-5.5) AA3(-12.5,-5.5) AA4(-11.5,-5.5) AA5(-10.5,-5.5) AA6(-9.5,-5.5) AA7(-8.5,-5.5) AA8(-7.5,-5.5) AA9(-6.5,-5.5) AA10(-5.5,-5.5) AA11(-4.5,-5.5) AA12(-3.5,-5.5) AA13(-2.5,-5.5) AA14(-1.5,-5.5) AA15(-0.5,-5.5) AA16(0.5,-5.5) AA17(1.5,-5.5) AA18(2.5,-5.5) AA19(3.5,-5.5) AA20(4.5,-5.5) AA21(5.5,-5.5) AA22(6.5,-5.5) AA23(7.5,-5.5) AA24(8.5,-5.5) AA25(9.5,-5.5) AA26(10.5,-5.5) AA27(11.5,-5.5) AA28(12.5,-5.5) AA29(13.5,-5.5) AA30(14.5,-5.5) AB1(-14.5,-6.5) AB2(-13.5,-6.5) AB3(-12.5,-6.5) AB4(-11.5,-6.5) AB5(-10.5,-6.5) AB6(-9.5,-6.5) AB7(-8.5,-6.5) AB8(-7.5,-6.5) AB9(-6.5,-6.5) AB10(-5.5,-6.5) AB11(-4.5,-6.5) AB12(-3.5,-6.5) AB13(-2.5,-6.5) AB14(-1.5,-6.5) AB15(-0.5,-6.5) AB16(0.5,-6.5) AB17(1.5,-6.5) AB18(2.5,-6.5) AB19(3.5,-6.5) AB20(4.5,-6.5) AB21(5.5,-6.5) AB22(6.5,-6.5) AB23(7.5,-6.5) AB24(8.5,-6.5) AB25(9.5,-6.5) AB26(10.5,-6.5) AB27(11.5,-6.5) AB28(12.5,-6.5) AB29(13.5,-6.5) AB30(14.5,-6.5) AC1(-14.5,-7.5) AC2(-13.5,-7.5) AC3(-12.5,-7.5) AC4(-11.5,-7.5) AC5(-10.5,-7.5) AC6(-9.5,-7.5) AC7(-8.5,-7.5) AC8(-7.5,-7.5) AC9(-6.5,-7.5) AC10(-5.5,-7.5) AC11(-4.5,-7.5) AC12(-3.5,-7.5) AC13(-2.5,-7.5) AC14(-1.5,-7.5) AC15(-0.5,-7.5) AC16(0.5,-7.5) AC17(1.5,-7.5) AC18(2.5,-7.5) AC19(3.5,-7.5) AC20(4.5,-7.5) AC21(5.5,-7.5) AC22(6.5,-7.5) AC23(7.5,-7.5) AC24(8.5,-7.5) AC25(9.5,-7.5) AC26(10.5,-7.5) AC27(11.5,-7.5) AC28(12.5,-7.5) AC29(13.5,-7.5) AC30(14.5,-7.5) AD1(-14.5,-8.5) AD2(-13.5,-8.5) AD3(-12.5,-8.5) AD4(-11.5,-8.5) AD5(-10.5,-8.5) AD6(-9.5,-8.5) AD7(-8.5,-8.5) AD8(-7.5,-8.5) AD9(-6.5,-8.5) AD10(-5.5,-8.5) AD11(-4.5,-8.5) AD12(-3.5,-8.5) AD13(-2.5,-8.5) AD14(-1.5,-8.5) AD15(-0.5,-8.5) AD16(0.5,-8.5) AD17(1.5,-8.5) AD18(2.5,-8.5) AD19(3.5,-8.5) AD20(4.5,-8.5) AD21(5.5,-8.5) AD22(6.5,-8.5) AD23(7.5,-8.5) AD24(8.5,-8.5) AD25(9.5,-8.5) AD26(10.5,-8.5) AD27(11.5,-8.5) AD28(12.5,-8.5) AD29(13.5,-8.5) AD30(14.5,-8.5) AE1(-14.5,-9.5) AE2(-13.5,-9.5) AE3(-12.5,-9.5) AE4(-11.5,-9.5) AE5(-10.5,-9.5) AE6(-9.5,-9.5) AE7(-8.5,-9.5) AE8(-7.5,-9.5) AE9(-6.5,-9.5) AE10(-5.5,-9.5) AE11(-4.5,-9.5) AE12(-3.5,-9.5) AE13(-2.5,-9.5) AE14(-1.5,-9.5) AE15(-0.5,-9.5) AE16(0.5,-9.5) AE17(1.5,-9.5) AE18(2.5,-9.5) AE19(3.5,-9.5) AE20(4.5,-9.5) AE21(5.5,-9.5) AE22(6.5,-9.5) AE23(7.5,-9.5) AE24(8.5,-9.5) AE25(9.5,-9.5) AE26(10.5,-9.5) AE27(11.5,-9.5) AE28(12.5,-9.5) AE29(13.5,-9.5) AE30(14.5,-9.5) AF1(-14.5,-10.5) AF2(-13.5,-10.5) AF3(-12.5,-10.5) AF4(-11.5,-10.5) AF5(-10.5,-10.5) AF6(-9.5,-10.5) AF7(-8.5,-10.5) AF8(-7.5,-10.5) AF9(-6.5,-10.5) AF10(-5.5,-10.5) AF11(-4.5,-10.5) AF12(-3.5,-10.5) AF13(-2.5,-10.5) AF14(-1.5,-10.5) AF15(-0.5,-10.5) AF16(0.5,-10.5) AF17(1.5,-10.5) AF18(2.5,-10.5) AF19(3.5,-10.5) AF20(4.5,-10.5) AF21(5.5,-10.5) AF22(6.5,-10.5) AF23(7.5,-10.5) AF24(8.5,-10.5) AF25(9.5,-10.5) AF26(10.5,-10.5) AF27(11.5,-10.5) AF28(12.5,-10.5) AF29(13.5,-10.5) AF30(14.5,-10.5) AG1(-14.5,-11.5) AG2(-13.5,-11.5) AG3(-12.5,-11.5) AG4(-11.5,-11.5) AG5(-10.5,-11.5) AG6(-9.5,-11.5) AG7(-8.5,-11.5) AG8(-7.5,-11.5) AG9(-6.5,-11.5) AG10(-5.5,-11.5) AG11(-4.5,-11.5) AG12(-3.5,-11.5) AG13(-2.5,-11.5) AG14(-1.5,-11.5) AG15(-0.5,-11.5) AG16(0.5,-11.5) AG17(1.5,-11.5) AG18(2.5,-11.5) AG19(3.5,-11.5) AG20(4.5,-11.5) AG21(5.5,-11.5) AG22(6.5,-11.5) AG23(7.5,-11.5) AG24(8.5,-11.5) AG25(9.5,-11.5) AG26(10.5,-11.5) AG27(11.5,-11.5) AG28(12.5,-11.5) AG29(13.5,-11.5) AG30(14.5,-11.5) AH1(-14.5,-12.5) AH2(-13.5,-12.5) AH3(-12.5,-12.5) AH4(-11.5,-12.5) AH5(-10.5,-12.5) AH6(-9.5,-12.5) AH7(-8.5,-12.5) AH8(-7.5,-12.5) AH9(-6.5,-12.5) AH10(-5.5,-12.5) AH11(-4.5,-12.5) AH12(-3.5,-12.5) AH13(-2.5,-12.5) AH14(-1.5,-12.5) AH15(-0.5,-12.5) AH16(0.5,-12.5) AH17(1.5,-12.5) AH18(2.5,-12.5) AH19(3.5,-12.5) AH20(4.5,-12.5) AH21(5.5,-12.5) AH22(6.5,-12.5) AH23(7.5,-12.5) AH24(8.5,-12.5) AH25(9.5,-12.5) AH26(10.5,-12.5) AH27(11.5,-12.5) AH28(12.5,-12.5) AH29(13.5,-12.5) AH30(14.5,-12.5) AJ1(-14.5,-13.5) AJ2(-13.5,-13.5) AJ3(-12.5,-13.5) AJ4(-11.5,-13.5) AJ5(-10.5,-13.5) AJ6(-9.5,-13.5) AJ7(-8.5,-13.5) AJ8(-7.5,-13.5) AJ9(-6.5,-13.5) AJ10(-5.5,-13.5) AJ11(-4.5,-13.5) AJ12(-3.5,-13.5) AJ13(-2.5,-13.5) AJ14(-1.5,-13.5) AJ15(-0.5,-13.5) AJ16(0.5,-13.5) AJ17(1.5,-13.5) AJ18(2.5,-13.5) AJ19(3.5,-13.5) AJ20(4.5,-13.5) AJ21(5.5,-13.5) AJ22(6.5,-13.5) AJ23(7.5,-13.5) AJ24(8.5,-13.5) AJ25(9.5,-13.5) AJ26(10.5,-13.5) AJ27(11.5,-13.5) AJ28(12.5,-13.5) AJ29(13.5,-13.5) AJ30(14.5,-13.5) AK1(-14.5,-14.5) AK2(-13.5,-14.5) AK3(-12.5,-14.5) AK4(-11.5,-14.5) AK5(-10.5,-14.5) AK6(-9.5,-14.5) AK7(-8.5,-14.5) AK8(-7.5,-14.5) AK9(-6.5,-14.5) AK10(-5.5,-14.5) AK11(-4.5,-14.5) AK12(-3.5,-14.5) AK13(-2.5,-14.5) AK14(-1.5,-14.5) AK15(-0.5,-14.5) AK16(0.5,-14.5) AK17(1.5,-14.5) AK18(2.5,-14.5) AK19(3.5,-14.5) AK20(4.5,-14.5) AK21(5.5,-14.5) AK22(6.5,-14.5) AK23(7.5,-14.5) AK24(8.5,-14.5) AK25(9.5,-14.5) AK26(10.5,-14.5) AK27(11.5,-14.5) AK28(12.5,-14.5) AK29(13.5,-14.5) AK30(14.5,-14.5) B1(-14.5,13.5) B2(-13.5,13.5) B3(-12.5,13.5) B4(-11.5,13.5) B5(-10.5,13.5) B6(-9.5,13.5) B7(-8.5,13.5) B8(-7.5,13.5) B9(-6.5,13.5) B10(-5.5,13.5) B11(-4.5,13.5) B12(-3.5,13.5) B13(-2.5,13.5) B14(-1.5,13.5) B15(-0.5,13.5) B16(0.5,13.5) B17(1.5,13.5) B18(2.5,13.5) B19(3.5,13.5) B20(4.5,13.5) B21(5.5,13.5) B22(6.5,13.5) B23(7.5,13.5) B24(8.5,13.5) B25(9.5,13.5) B26(10.5,13.5) B27(11.5,13.5) B28(12.5,13.5) B29(13.5,13.5) B30(14.5,13.5) C1(-14.5,12.5) C2(-13.5,12.5) C3(-12.5,12.5) C4(-11.5,12.5) C5(-10.5,12.5) C6(-9.5,12.5) C7(-8.5,12.5) C8(-7.5,12.5) C9(-6.5,12.5) C10(-5.5,12.5) C11(-4.5,12.5) C12(-3.5,12.5) C13(-2.5,12.5) C14(-1.5,12.5) C15(-0.5,12.5) C16(0.5,12.5) C17(1.5,12.5) C18(2.5,12.5) C19(3.5,12.5) C20(4.5,12.5) C21(5.5,12.5) C22(6.5,12.5) C23(7.5,12.5) C24(8.5,12.5) C25(9.5,12.5) C26(10.5,12.5) C27(11.5,12.5) C28(12.5,12.5) C29(13.5,12.5) C30(14.5,12.5) D1(-14.5,11.5) D2(-13.5,11.5) D3(-12.5,11.5) D4(-11.5,11.5) D5(-10.5,11.5) D6(-9.5,11.5) D7(-8.5,11.5) D8(-7.5,11.5) D9(-6.5,11.5) D10(-5.5,11.5) D11(-4.5,11.5) D12(-3.5,11.5) D13(-2.5,11.5) D14(-1.5,11.5) D15(-0.5,11.5) D16(0.5,11.5) D17(1.5,11.5) D18(2.5,11.5) D19(3.5,11.5) D20(4.5,11.5) D21(5.5,11.5) D22(6.5,11.5) D23(7.5,11.5) D24(8.5,11.5) D25(9.5,11.5) D26(10.5,11.5) D27(11.5,11.5) D28(12.5,11.5) D29(13.5,11.5) D30(14.5,11.5) E1(-14.5,10.5) E2(-13.5,10.5) E3(-12.5,10.5) E4(-11.5,10.5) E5(-10.5,10.5) E6(-9.5,10.5) E7(-8.5,10.5) E8(-7.5,10.5) E9(-6.5,10.5) E10(-5.5,10.5) E11(-4.5,10.5) E12(-3.5,10.5) E13(-2.5,10.5) E14(-1.5,10.5) E15(-0.5,10.5) E16(0.5,10.5) E17(1.5,10.5) E18(2.5,10.5) E19(3.5,10.5) E20(4.5,10.5) E21(5.5,10.5) E22(6.5,10.5) E23(7.5,10.5) E24(8.5,10.5) E25(9.5,10.5) E26(10.5,10.5) E27(11.5,10.5) E28(12.5,10.5) E29(13.5,10.5) E30(14.5,10.5) F1(-14.5,9.5) F2(-13.5,9.5) F3(-12.5,9.5) F4(-11.5,9.5) F5(-10.5,9.5) F6(-9.5,9.5) F7(-8.5,9.5) F8(-7.5,9.5) F9(-6.5,9.5) F10(-5.5,9.5) F11(-4.5,9.5) F12(-3.5,9.5) F13(-2.5,9.5) F14(-1.5,9.5) F15(-0.5,9.5) F16(0.5,9.5) F17(1.5,9.5) F18(2.5,9.5) F19(3.5,9.5) F20(4.5,9.5) F21(5.5,9.5) F22(6.5,9.5) F23(7.5,9.5) F24(8.5,9.5) F25(9.5,9.5) F26(10.5,9.5) F27(11.5,9.5) F28(12.5,9.5) F29(13.5,9.5) F30(14.5,9.5) G1(-14.5,8.5) G2(-13.5,8.5) G3(-12.5,8.5) G4(-11.5,8.5) G5(-10.5,8.5) G6(-9.5,8.5) G7(-8.5,8.5) G8(-7.5,8.5) G9(-6.5,8.5) G10(-5.5,8.5) G11(-4.5,8.5) G12(-3.5,8.5) G13(-2.5,8.5) G14(-1.5,8.5) G15(-0.5,8.5) G16(0.5,8.5) G17(1.5,8.5) G18(2.5,8.5) G19(3.5,8.5) G20(4.5,8.5) G21(5.5,8.5) G22(6.5,8.5) G23(7.5,8.5) G24(8.5,8.5) G25(9.5,8.5) G26(10.5,8.5) G27(11.5,8.5) G28(12.5,8.5) G29(13.5,8.5) G30(14.5,8.5) H1(-14.5,7.5) H2(-13.5,7.5) H3(-12.5,7.5) H4(-11.5,7.5) H5(-10.5,7.5) H6(-9.5,7.5) H7(-8.5,7.5) H8(-7.5,7.5) H9(-6.5,7.5) H10(-5.5,7.5) H11(-4.5,7.5) H12(-3.5,7.5) H13(-2.5,7.5) H14(-1.5,7.5) H15(-0.5,7.5) H16(0.5,7.5) H17(1.5,7.5) H18(2.5,7.5) H19(3.5,7.5) H20(4.5,7.5) H21(5.5,7.5) H22(6.5,7.5) H23(7.5,7.5) H24(8.5,7.5) H25(9.5,7.5) H26(10.5,7.5) H27(11.5,7.5) H28(12.5,7.5) H29(13.5,7.5) H30(14.5,7.5) J1(-14.5,6.5) J2(-13.5,6.5) J3(-12.5,6.5) J4(-11.5,6.5) J5(-10.5,6.5) J6(-9.5,6.5) J7(-8.5,6.5) J8(-7.5,6.5) J9(-6.5,6.5) J10(-5.5,6.5) J11(-4.5,6.5) J12(-3.5,6.5) J13(-2.5,6.5) J14(-1.5,6.5) J15(-0.5,6.5) J16(0.5,6.5) J17(1.5,6.5) J18(2.5,6.5) J19(3.5,6.5) J20(4.5,6.5) J21(5.5,6.5) J22(6.5,6.5) J23(7.5,6.5) J24(8.5,6.5) J25(9.5,6.5) J26(10.5,6.5) J27(11.5,6.5) J28(12.5,6.5) J29(13.5,6.5) J30(14.5,6.5) K1(-14.5,5.5) K2(-13.5,5.5) K3(-12.5,5.5) K4(-11.5,5.5) K5(-10.5,5.5) K6(-9.5,5.5) K7(-8.5,5.5) K8(-7.5,5.5) K9(-6.5,5.5) K10(-5.5,5.5) K11(-4.5,5.5) K12(-3.5,5.5) K13(-2.5,5.5) K14(-1.5,5.5) K15(-0.5,5.5) K16(0.5,5.5) K17(1.5,5.5) K18(2.5,5.5) K19(3.5,5.5) K20(4.5,5.5) K21(5.5,5.5) K22(6.5,5.5) K23(7.5,5.5) K24(8.5,5.5) K25(9.5,5.5) K26(10.5,5.5) K27(11.5,5.5) K28(12.5,5.5) K29(13.5,5.5) K30(14.5,5.5) L1(-14.5,4.5) L2(-13.5,4.5) L3(-12.5,4.5) L4(-11.5,4.5) L5(-10.5,4.5) L6(-9.5,4.5) L7(-8.5,4.5) L8(-7.5,4.5) L9(-6.5,4.5) L10(-5.5,4.5) L11(-4.5,4.5) L12(-3.5,4.5) L13(-2.5,4.5) L14(-1.5,4.5) L15(-0.5,4.5) L16(0.5,4.5) L17(1.5,4.5) L18(2.5,4.5) L19(3.5,4.5) L20(4.5,4.5) L21(5.5,4.5) L22(6.5,4.5) L23(7.5,4.5) L24(8.5,4.5) L25(9.5,4.5) L26(10.5,4.5) L27(11.5,4.5) L28(12.5,4.5) L29(13.5,4.5) L30(14.5,4.5) M1(-14.5,3.5) M2(-13.5,3.5) M3(-12.5,3.5) M4(-11.5,3.5) M5(-10.5,3.5) M6(-9.5,3.5) M7(-8.5,3.5) M8(-7.5,3.5) M9(-6.5,3.5) M10(-5.5,3.5) M11(-4.5,3.5) M12(-3.5,3.5) M13(-2.5,3.5) M14(-1.5,3.5) M15(-0.5,3.5) M16(0.5,3.5) M17(1.5,3.5) M18(2.5,3.5) M19(3.5,3.5) M20(4.5,3.5) M21(5.5,3.5) M22(6.5,3.5) M23(7.5,3.5) M24(8.5,3.5) M25(9.5,3.5) M26(10.5,3.5) M27(11.5,3.5) M28(12.5,3.5) M29(13.5,3.5) M30(14.5,3.5) N1(-14.5,2.5) N2(-13.5,2.5) N3(-12.5,2.5) N4(-11.5,2.5) N5(-10.5,2.5) N6(-9.5,2.5) N7(-8.5,2.5) N8(-7.5,2.5) N9(-6.5,2.5) N10(-5.5,2.5) N11(-4.5,2.5) N12(-3.5,2.5) N13(-2.5,2.5) N14(-1.5,2.5) N15(-0.5,2.5) N16(0.5,2.5) N17(1.5,2.5) N18(2.5,2.5) N19(3.5,2.5) N20(4.5,2.5) N21(5.5,2.5) N22(6.5,2.5) N23(7.5,2.5) N24(8.5,2.5) N25(9.5,2.5) N26(10.5,2.5) N27(11.5,2.5) N28(12.5,2.5) N29(13.5,2.5) N30(14.5,2.5) P1(-14.5,1.5) P2(-13.5,1.5) P3(-12.5,1.5) P4(-11.5,1.5) P5(-10.5,1.5) P6(-9.5,1.5) P7(-8.5,1.5) P8(-7.5,1.5) P9(-6.5,1.5) P10(-5.5,1.5) P11(-4.5,1.5) P12(-3.5,1.5) P13(-2.5,1.5) P14(-1.5,1.5) P15(-0.5,1.5) P16(0.5,1.5) P17(1.5,1.5) P18(2.5,1.5) P19(3.5,1.5) P20(4.5,1.5) P21(5.5,1.5) P22(6.5,1.5) P23(7.5,1.5) P24(8.5,1.5) P25(9.5,1.5) P26(10.5,1.5) P27(11.5,1.5) P28(12.5,1.5) P29(13.5,1.5) P30(14.5,1.5) R1(-14.5,0.5) R2(-13.5,0.5) R3(-12.5,0.5) R4(-11.5,0.5) R5(-10.5,0.5) R6(-9.5,0.5) R7(-8.5,0.5) R8(-7.5,0.5) R9(-6.5,0.5) R10(-5.5,0.5) R11(-4.5,0.5) R12(-3.5,0.5) R13(-2.5,0.5) R14(-1.5,0.5) R15(-0.5,0.5) R16(0.5,0.5) R17(1.5,0.5) R18(2.5,0.5) R19(3.5,0.5) R20(4.5,0.5) R21(5.5,0.5) R22(6.5,0.5) R23(7.5,0.5) R24(8.5,0.5) R25(9.5,0.5) R26(10.5,0.5) R27(11.5,0.5) R28(12.5,0.5) R29(13.5,0.5) R30(14.5,0.5) T1(-14.5,-0.5) T2(-13.5,-0.5) T3(-12.5,-0.5) T4(-11.5,-0.5) T5(-10.5,-0.5) T6(-9.5,-0.5) T7(-8.5,-0.5) T8(-7.5,-0.5) T9(-6.5,-0.5) T10(-5.5,-0.5) T11(-4.5,-0.5) T12(-3.5,-0.5) T13(-2.5,-0.5) T14(-1.5,-0.5) T15(-0.5,-0.5) T16(0.5,-0.5) T17(1.5,-0.5) T18(2.5,-0.5) T19(3.5,-0.5) T20(4.5,-0.5) T21(5.5,-0.5) T22(6.5,-0.5) T23(7.5,-0.5) T24(8.5,-0.5) T25(9.5,-0.5) T26(10.5,-0.5) T27(11.5,-0.5) T28(12.5,-0.5) T29(13.5,-0.5) T30(14.5,-0.5) U1(-14.5,-1.5) U2(-13.5,-1.5) U3(-12.5,-1.5) U4(-11.5,-1.5) U5(-10.5,-1.5) U6(-9.5,-1.5) U7(-8.5,-1.5) U8(-7.5,-1.5) U9(-6.5,-1.5) U10(-5.5,-1.5) U11(-4.5,-1.5) U12(-3.5,-1.5) U13(-2.5,-1.5) U14(-1.5,-1.5) U15(-0.5,-1.5) U16(0.5,-1.5) U17(1.5,-1.5) U18(2.5,-1.5) U19(3.5,-1.5) U20(4.5,-1.5) U21(5.5,-1.5) U22(6.5,-1.5) U23(7.5,-1.5) U24(8.5,-1.5) U25(9.5,-1.5) U26(10.5,-1.5) U27(11.5,-1.5) U28(12.5,-1.5) U29(13.5,-1.5) U30(14.5,-1.5) V1(-14.5,-2.5) V2(-13.5,-2.5) V3(-12.5,-2.5) V4(-11.5,-2.5) V5(-10.5,-2.5) V6(-9.5,-2.5) V7(-8.5,-2.5) V8(-7.5,-2.5) V9(-6.5,-2.5) V10(-5.5,-2.5) V11(-4.5,-2.5) V12(-3.5,-2.5) V13(-2.5,-2.5) V14(-1.5,-2.5) V15(-0.5,-2.5) V16(0.5,-2.5) V17(1.5,-2.5) V18(2.5,-2.5) V19(3.5,-2.5) V20(4.5,-2.5) V21(5.5,-2.5) V22(6.5,-2.5) V23(7.5,-2.5) V24(8.5,-2.5) V25(9.5,-2.5) V26(10.5,-2.5) V27(11.5,-2.5) V28(12.5,-2.5) V29(13.5,-2.5) V30(14.5,-2.5) W1(-14.5,-3.5) W2(-13.5,-3.5) W3(-12.5,-3.5) W4(-11.5,-3.5) W5(-10.5,-3.5) W6(-9.5,-3.5) W7(-8.5,-3.5) W8(-7.5,-3.5) W9(-6.5,-3.5) W10(-5.5,-3.5) W11(-4.5,-3.5) W12(-3.5,-3.5) W13(-2.5,-3.5) W14(-1.5,-3.5) W15(-0.5,-3.5) W16(0.5,-3.5) W17(1.5,-3.5) W18(2.5,-3.5) W19(3.5,-3.5) W20(4.5,-3.5) W21(5.5,-3.5) W22(6.5,-3.5) W23(7.5,-3.5) W24(8.5,-3.5) W25(9.5,-3.5) W26(10.5,-3.5) W27(11.5,-3.5) W28(12.5,-3.5) W29(13.5,-3.5) W30(14.5,-3.5) Y1(-14.5,-4.5) Y2(-13.5,-4.5) Y3(-12.5,-4.5) Y4(-11.5,-4.5) Y5(-10.5,-4.5) Y6(-9.5,-4.5) Y7(-8.5,-4.5) Y8(-7.5,-4.5) Y9(-6.5,-4.5) Y10(-5.5,-4.5) Y11(-4.5,-4.5) Y12(-3.5,-4.5) Y13(-2.5,-4.5) Y14(-1.5,-4.5) Y15(-0.5,-4.5) Y16(0.5,-4.5) Y17(1.5,-4.5) Y18(2.5,-4.5) Y19(3.5,-4.5) Y20(4.5,-4.5) Y21(5.5,-4.5) Y22(6.5,-4.5) Y23(7.5,-4.5) Y24(8.5,-4.5) Y25(9.5,-4.5) Y26(10.5,-4.5) Y27(11.5,-4.5) Y28(12.5,-4.5) Y29(13.5,-4.5) Y30(14.5,-4.5)
Top Overlay:
  circle w0.25: c-16.15,15.35 r0.125
  region: -14.5,15.5 -15.5,14.5 -15.5,15.5
  lines w0.2: -15.5,14.5 -14.5,15.5 ; -15.5,-15.5 15.5,-15.5 15.5,15.5 -15.5,15.5 -15.5,-15.5
Mechanical 13:
  lines w0.1: -15.5,-15.5 15.5,-15.5 15.5,15.5 -15.5,15.5 -15.5,-15.5
Mechanical 15:
  lines w0.05: -16,-16 16,-16 16,16 -16,16 -16,-16
  lines w0.1: -0.5,0 0.5,0 ; 0,-0.5 0,0.5
3D body: height 2.54, standoff 0.4, extent -15.5,-15.5 15.5,15.5